# Altium footprint library QFN-20_UFD_LIT-L.PcbLib: 1 footprints
Each footprint in its own frame and in the unit in brackets; x right, y up, seen from the top. Pads: shape width x height; smd on the part's side, far side on the other; paste and mask are expansions set on the pad; w line width, h text height; cw(c..) or ccw(c..) is an arc to the next point about the centre after c.
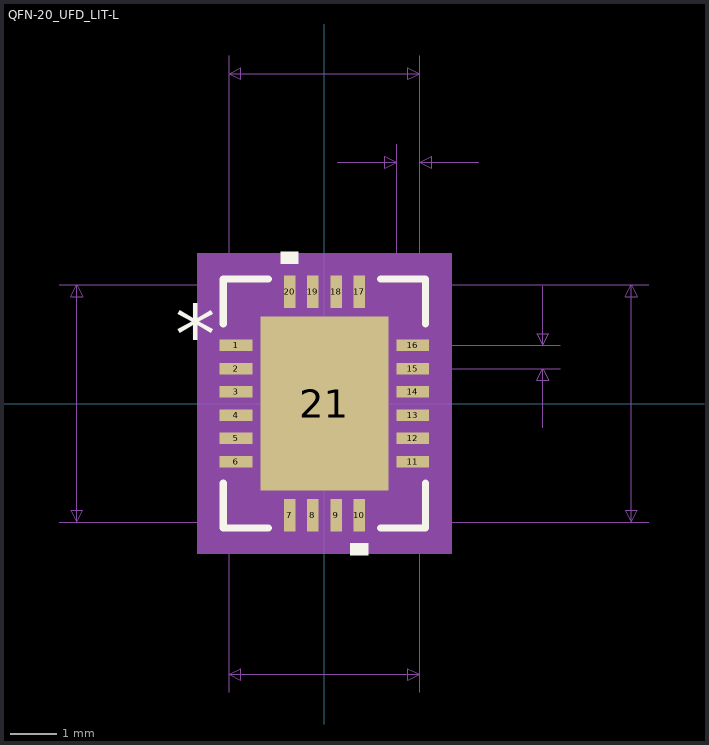
[diagram p0: the footprint, top view; thin cyan lines are the x and y axes]

## QFN-20_UFD_LIT-L [mm]
pads (21):
  rect 0.703x0.249 smd paste+0 mask+0: 1(-1.902,1.25) 2(-1.902,0.75) 3(-1.902,0.25) 4(-1.902,-0.25) 5(-1.902,-0.75) 6(-1.902,-1.25) 11(1.902,-1.25) 12(1.902,-0.75) 13(1.902,-0.25) 14(1.902,0.25) 15(1.902,0.75) 16(1.902,1.25)
  rect 0.249x0.703 smd paste+0 mask+0: 7(-0.75,-2.402) 8(-0.25,-2.402) 9(0.25,-2.402) 10(0.75,-2.402) 17(0.75,2.402) 18(0.25,2.402) 19(-0.25,2.402) 20(-0.75,2.402)
  rect 2.75x3.75 smd paste-1.862 mask+0: 21(0,0)
Top Overlay:
  region: -0.56,3.007 -0.941,3.007 -0.941,3.261 -0.56,3.261
  region: 0.941,-3.007 0.56,-3.007 0.56,-3.261 0.941,-3.261
  lines w0.152: -2.177,-1.707 -2.177,-2.677 -1.207,-2.677 ; -2.177,1.707 -2.177,2.677 -1.207,2.677 ; 1.207,-2.677 2.177,-2.677 2.177,-1.707 ; 1.207,2.677 2.177,2.677 2.177,1.707
  text "*" at -3.206,0.865 h1.27
Top Paste:
  region: 1.275,-0.1 0.1,-0.1 0.1,-1.775 1.275,-1.775
  region: 1.275,1.775 0.1,1.775 0.1,0.1 1.275,0.1
  region: -0.1,-0.1 -1.275,-0.1 -1.275,-1.775 -0.1,-1.775
  region: -0.1,1.775 -1.275,1.775 -1.275,0.1 -0.1,0.1
Mechanical 5:
  region: 2.736,-3.236 -2.736,-3.236 -2.736,3.236 2.736,3.236
Mechanical 7:
  lines w0.025: -5.708,-2.55 2.05,-2.55 ; -5.708,2.55 2.05,2.55 2.05,-6.208 ; -2.05,-6.208 -2.05,2.55 ; -2.05,1.25 -2.05,7.478 ; 0.28,5.192 1.55,5.192 ; 0.75,-2.55 6.978,-2.55 ; 0.75,2.55 6.978,2.55 ; 1.55,1.25 1.55,5.573 ; 1.902,0.75 5.073,0.75 ; 1.902,1.25 5.073,1.25 ; 2.05,5.573 2.05,1.25 2.05,7.478 ; 3.32,5.192 2.05,5.192 ; 4.692,-0.52 4.692,0.75 ; 4.692,2.52 4.692,1.25 ; -5.327,-2.55 -5.2,-2.296 -5.454,-2.296 -5.327,-2.55 ; -5.327,-2.55 -5.327,2.55 ; -5.327,2.55 -5.2,2.296 -5.454,2.296 -5.327,2.55 ; -2.05,-5.827 -1.796,-5.954 -1.796,-5.7 -2.05,-5.827 ; -2.05,-5.827 2.05,-5.827 ; -2.05,7.097 -1.796,6.97 -1.796,7.224 -2.05,7.097 ; -2.05,7.097 2.05,7.097 ; 1.55,5.192 1.296,5.065 1.296,5.319 1.55,5.192 ; 2.05,-5.827 1.796,-5.954 1.796,-5.7 2.05,-5.827 ; 2.05,5.192 2.304,5.065 2.304,5.319 2.05,5.192 ; 2.05,7.097 1.796,6.97 1.796,7.224 2.05,7.097 ; 4.692,0.75 4.819,0.496 4.565,0.496 4.692,0.75 ; 4.692,1.25 4.819,1.504 4.565,1.504 4.692,1.25 ; 6.597,-2.55 6.724,-2.296 6.47,-2.296 6.597,-2.55 ; 6.597,-2.55 6.597,2.55 ; 6.597,2.55 6.724,2.296 6.47,2.296 6.597,2.55
  text "0.161in/4.1mm" at -2.064,-6.97 h0.64
  text "0.201in/5.1mm" at -9.962,-0.318 h0.64
  text "0.201in/5.1mm" at 7.105,-0.318 h0.64
  text "0.161in/4.1mm" at -2.064,7.605 h0.64
  text "0.02in/0.5mm" at -0.105,5.7 h0.64
  text "0.02in/0.5mm" at 5.2,0.683 h0.64
  text "Alt 2 Padstyle: OX90Y60D30P" at -8.572,-16.723 h1.27
  text "Alt 1 Padstyle: OX60Y90D30P" at -8.572,-15.199 h1.27
  text "Heat Tab Padstyle: RX108p27Y147p64D0T" at -11.747,-12.151 h1.27
  text "Default Padstyle: RX9p81Y27p69D0T" at -10.477,-10.627 h1.27
Mechanical 13:
  lines w0.025: -2.05,1.28 -0.78,2.55 ; -2.05,-2.55 -2.05,2.55 2.05,2.55 2.05,-2.55 -2.05,-2.55 ; -2.05,-1.4 -2.05,-1.1 -2.05,-1.4 ; -2.05,-0.9 -2.05,-0.6 -2.05,-0.9 ; -2.05,-0.4 -2.05,-0.1 -2.05,-0.4 ; -2.05,0.1 -2.05,0.4 -2.05,0.1 ; -2.05,0.6 -2.05,0.9 -2.05,0.6 ; -2.05,1.1 -2.05,1.4 -2.05,1.1 ; -0.9,-2.55 -0.6,-2.55 -0.9,-2.55 ; -0.9,2.55 -0.6,2.55 -0.9,2.55 ; -0.4,-2.55 -0.1,-2.55 -0.4,-2.55 ; -0.4,2.55 -0.1,2.55 -0.4,2.55 ; 0.1,-2.55 0.4,-2.55 0.1,-2.55 ; 0.1,2.55 0.4,2.55 0.1,2.55 ; 0.6,-2.55 0.9,-2.55 0.6,-2.55 ; 0.6,2.55 0.9,2.55 0.6,2.55 ; 2.05,-1.4 2.05,-1.1 2.05,-1.4 ; 2.05,-0.9 2.05,-0.6 2.05,-0.9 ; 2.05,-0.4 2.05,-0.1 2.05,-0.4 ; 2.05,0.1 2.05,0.4 2.05,0.1 ; 2.05,0.6 2.05,0.9 2.05,0.6 ; 2.05,1.1 2.05,1.4 2.05,1.1
  text "*" at -1.867,0.865 h1.27
Mechanical 15:
  region: -0.976,-2.652 -2.152,-2.652 -2.152,-1.476 -2.355,-1.476 -2.355,1.476 -2.152,1.476 -2.152,2.652 -0.976,2.652 -0.976,2.855 0.976,2.855 0.976,2.652 2.152,2.652 2.152,1.476 2.355,1.476 2.355,-1.476 2.152,-1.476 2.152,-2.652 0.976,-2.652 0.976,-2.855 -0.976,-2.855
  lines w0.152: -2.355,-1.476 -2.355,1.476 -2.152,1.476 -2.152,2.652 -0.976,2.652 -0.976,2.855 0.976,2.855 0.976,2.652 2.152,2.652 2.152,1.476 2.355,1.476 2.355,-1.476 2.152,-1.476 2.152,-2.652 0.976,-2.652 0.976,-2.855 -0.976,-2.855 -0.976,-2.652 -2.152,-2.652 -2.152,-1.476 -2.355,-1.476
3D body: height 0.25, standoff 0, extent 0,0 0.254,0.254